# Altium footprint library JST_S2B-XH-A.PcbLib: 1 footprints
Each footprint in its own frame and in the unit in brackets; x right, y up, seen from the top. Pads: shape width x height; smd on the part's side, far side on the other; paste and mask are expansions set on the pad; w line width, h text height; cw(c..) or ccw(c..) is an arc to the next point about the centre after c.
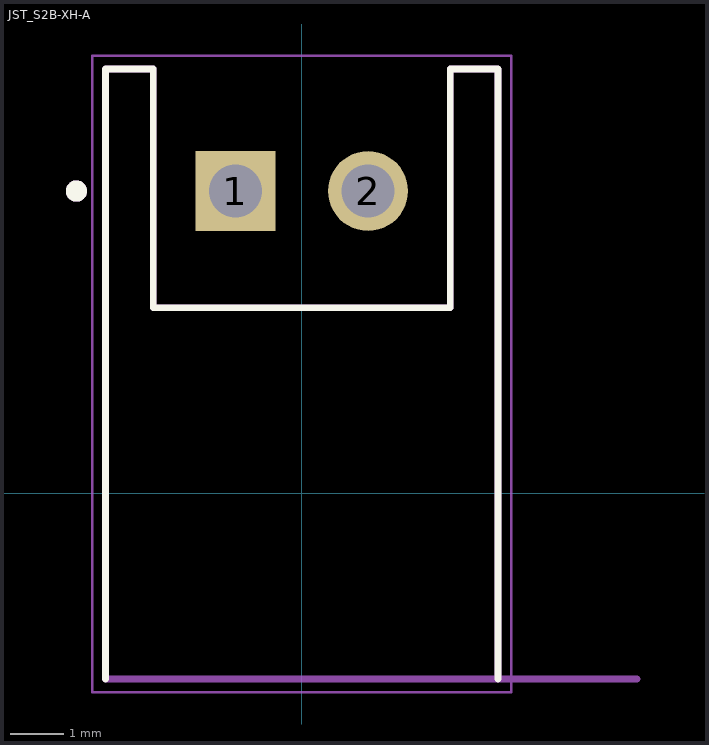
[diagram p0: the footprint, top view; thin cyan lines are the x and y axes]

## JST_S2B-XH-A [mm]
pads (2):
  rect 1.508x1.508 / inner round 1.508 / far side rect 1.508x1.508 hole 1: 1(-1.25,5.7)
  round 1.508 hole 1: 2(1.25,5.7)
Top Overlay:
  circle w0.2: c-4.25,5.7 r0.1
  lines w0.127: -3.7,-3.5 -3.7,8 -2.8,8 -2.8,3.5 2.8,3.5 2.8,8 3.7,8 3.7,-3.5
Assembly Top:
  circle w0.2: c-4.25,5.7 r0.1
  lines w0.127: 6.32,-3.5 3.7,-3.5 ; 3.7,-3.5 -3.7,-3.5 -3.7,8 -2.8,8 -2.8,3.5 2.8,3.5 2.8,8 3.7,8 3.7,-3.5
  text "PCB Edge" at 4.167,-3.203 h0.81
Courtyard Top:
  lines w0.05: -3.95,-3.75 -3.95,8.25 3.95,8.25 3.95,-3.75 -3.95,-3.75
3D body "step_temp.STEP": height 6.1, standoff -3.4, extent -3.7,-3.5 3.7,8